# Altium footprint library trailGuard.PcbLib: 3 footprints
Each footprint in its own frame and in the unit in brackets; x right, y up, seen from the top. Pads: shape width x height; smd on the part's side, far side on the other; paste and mask are expansions set on the pad; w line width, h text height; cw(c..) or ccw(c..) is an arc to the next point about the centre after c.
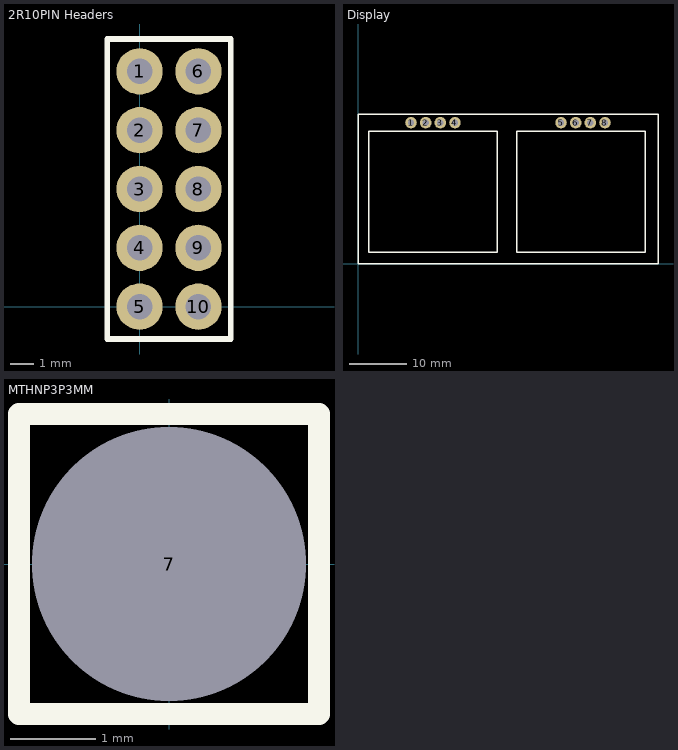
[diagram p0: the footprints below, top view; thin cyan lines are the x and y axes]

## 2R10PIN Headers [mm]
height 5.84
pads (10):
  round 2 hole 1.1: 1(0,10.16) 2(0,7.62) 3(0,5.08) 4(0,2.54) 5(0,0) 6(2.54,10.16) 7(2.54,7.62) 8(2.54,5.08) 9(2.54,2.54) 10(2.54,0)
Top Overlay:
  lines w0.254: 3.833,-1.397 -1.397,-1.397 -1.397,1.778 -1.397,11.557 3.833,11.557 ; 3.937,-1.397 3.937,11.557
3D body "Header 10 pins.step": height 8.54, standoff -3, extent -1.27,-1.27 3.81,11.43

## Display [mm]
pads (8):
  round 2 hole 1.1: 1(9.19,24.5) 2(11.73,24.5) 3(14.27,24.5) 4(16.81,24.5) 5(35.19,24.5) 6(37.73,24.5) 7(40.27,24.5) 8(42.81,24.5)
Top Overlay:
  lines w0.254: 0,0 0,26 52,26 52,0 0,0 ; 1.905,2.032 24.13,2.032 24.13,22.987 1.905,22.987 1.905,2.032 ; 27.559,2.032 27.559,22.987 49.784,22.987 49.784,2.032 27.559,2.032

## MTHNP3P3MM [mm] "Mounting hole Non-Plated 3.2mm Hole"
pads (1):
  round 1 hole 3.2: 7(0,0)
Top Overlay:
  lines w0.254: -1.753,-1.753 1.753,-1.753 1.753,1.753 -1.753,1.753 -1.753,0 -1.753,-1.753